# Altium footprint library DragonFly.PcbLib: 28 footprints (part 1 of 2)
Each footprint in its own frame and in the unit in brackets; x right, y up, seen from the top. Pads: shape width x height; smd on the part's side, far side on the other; paste and mask are expansions set on the pad; w line width, h text height; cw(c..) or ccw(c..) is an arc to the next point about the centre after c.
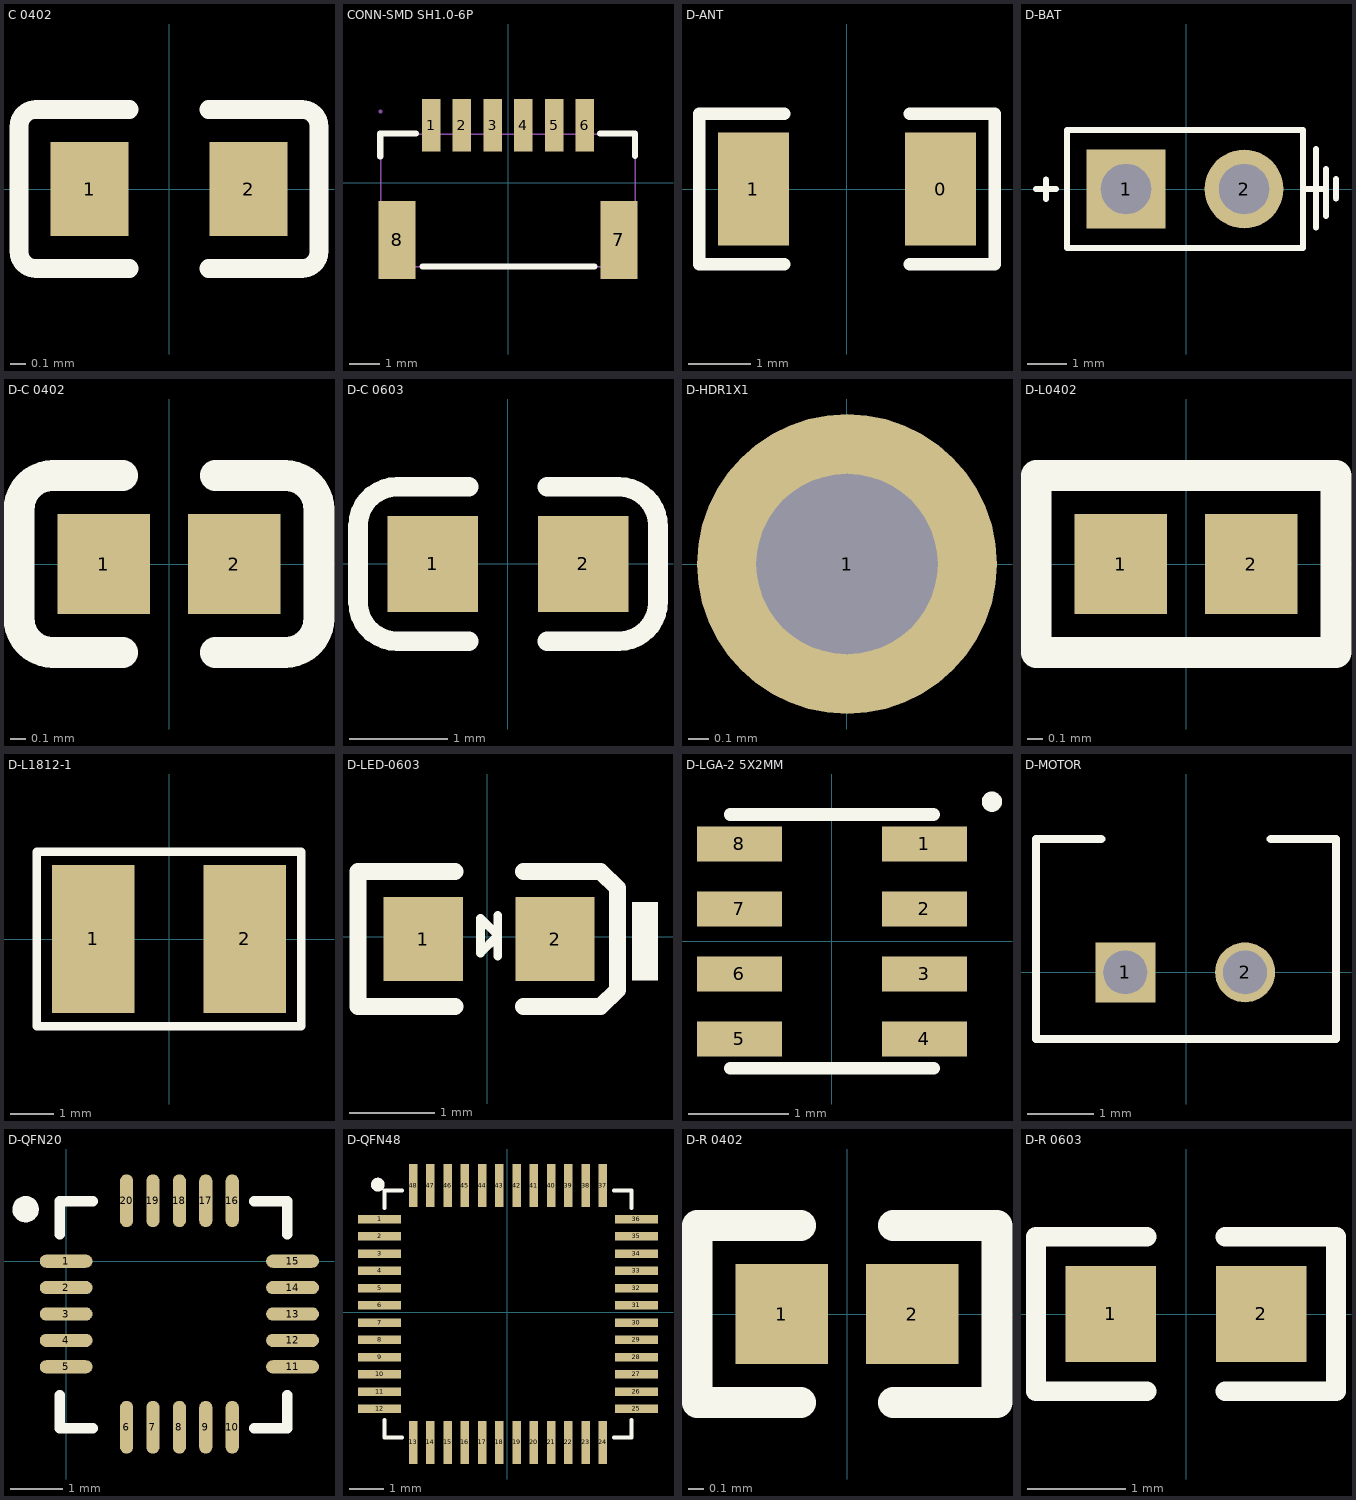
[diagram p0: the footprints below, top view; thin cyan lines are the x and y axes]

## C 0402 [mm]
pads (2):
  rect 0.5x0.6 smd mask+0.102: 1(-0.508,0) 2(0.508,0)
Top Overlay:
  lines w0.12: -0.254,-0.508 -0.85,-0.508 cw(c-0.85,-0.4) -0.958,-0.4 -0.958,0.4 cw(c-0.85,0.4) -0.85,0.508 -0.254,0.508 ; 0.254,-0.508 0.85,-0.508 ccw(c0.85,-0.4) 0.958,-0.4 0.958,0.4 ccw(c0.85,0.4) 0.85,0.508 0.254,0.508

## CONN-SMD SH1.0-6P [mm]
pads (8):
  rect 0.6x1.71 smd mask+0.051: 1(-2.5,1.87) 2(-1.5,1.87) 3(-0.5,1.87) 4(0.5,1.87) 5(1.5,1.87) 6(2.5,1.87)
  rect 1.2x2.55 smd mask+0.051: 7(3.61,-1.87) 8(-3.61,-1.87)
Top Overlay:
  lines w0.2: -4.16,0.852 -4.16,1.592 -3.004,1.592 ; -2.78,-2.73 2.81,-2.73 ; 3.004,1.592 4.14,1.592 4.14,0.872
Mechanical 15:
  region: 2.4,2.315 2.6,2.315 2.6,1.565 2.4,1.565
  region: 1.4,2.315 1.6,2.315 1.6,1.565 1.4,1.565
  region: 0.4,2.315 0.6,2.315 0.6,1.565 0.4,1.565
  region: -0.6,2.315 -0.4,2.315 -0.4,1.565 -0.6,1.565
  region: -1.6,2.315 -1.4,2.315 -1.4,1.565 -1.6,1.565
  region: -2.6,2.315 -2.4,2.315 -2.4,1.565 -2.6,1.565
  region: 3.51,-1.145 3.71,-1.145 3.71,-2.595 3.51,-2.595
  region: -3.71,-1.145 -3.51,-1.145 -3.51,-2.595 -3.71,-2.595
  region: -4.15,2.255 -4.125,2.255 -4.09,2.29 -4.09,2.34 -4.125,2.375 -4.15,2.375 -4.175,2.375 -4.21,2.34 -4.21,2.29 -4.175,2.255 -4.15,2.255
  lines w0.051: -4.15,-2.735 -4.15,1.575 4.15,1.575 4.15,-2.735 -4.15,-2.735

## D-ANT [mm]
pads (2):
  rect 1.13x1.8 smd mask+0.102: 0(1.49,0) 1(-1.49,0)
Top Overlay:
  lines w0.2: -1,-1.2 -2.355,-1.2 -2.355,1.2 -1,1.2 ; 1,-1.2 2.355,-1.2 2.355,1.2 1,1.2

## D-BAT [mm]
pads (2):
  rect 2x2 hole 1.27 slot 1.275 at 0 deg mask+0.102: 1(-1.524,0)
  round 2 hole 1.27 slot 1.275 at 0 deg mask+0.102: 2(1.476,0)
Top Overlay:
  lines w0.152: -3.81,0 -3.302,0 ; -3.556,-0.254 -3.556,0.238 ; 2.976,0 3.476,0 ; 3.302,-0.984 3.302,1.016 ; 3.556,-0.692 3.556,0.508 ; 3.81,-0.246 3.81,0.254 ; -3.024,-1.5 2.976,-1.5 2.976,1.5 -3.024,1.5 -3.024,-1.5

## D-C 0402 [mm]
pads (2):
  rect 0.6x0.65 smd mask+0.102: 1(-0.425,0) 2(0.425,0)
Top Overlay:
  lines w0.2: -0.755,-0.575 cw(c-0.755,-0.355) -0.975,-0.355 -0.975,0.355 cw(c-0.755,0.355) -0.755,0.575 ; -0.75,-0.575 -0.3,-0.575 ; -0.75,0.575 -0.3,0.575 ; 0.3,-0.575 0.75,-0.575 ; 0.3,0.575 0.75,0.575 ; 0.755,-0.575 ccw(c0.755,-0.355) 0.975,-0.355 0.975,0.355 ccw(c0.755,0.355) 0.755,0.575

## D-C 0603 [mm]
pads (2):
  rect 0.93x0.98 smd mask+0.102: 1(-0.77,0) 2(0.77,0)
Top Overlay:
  lines w0.2: -0.4,-0.79 -1.135,-0.79 cw(c-1.135,-0.39) -1.535,-0.39 -1.535,0.39 cw(c-1.135,0.39) -1.135,0.79 -0.4,0.79 ; 0.4,-0.79 1.135,-0.79 ccw(c1.135,-0.39) 1.535,-0.39 1.535,0.39 ccw(c1.135,0.39) 1.135,0.79 0.4,0.79

## D-HDR1X1 [mm]
pads (1):
  round 1.5 hole 0.9 slot 0.905 at 0 deg mask+0.102: 1(0,0)

## D-L0402 [mm]
pads (2):
  rect 0.6x0.65 smd mask+0.102: 1(-0.425,0) 2(0.425,0)
Top Overlay:
  lines w0.2: -0.975,-0.575 -0.975,0.575 0.975,0.575 0.975,-0.575 -0.975,-0.575

## D-L1812-1 [mm]
pads (2):
  rect 1.9x3.42 smd mask+0.102: 1(-1.75,0) 2(1.75,0)
Top Overlay:
  lines w0.2: -3.05,-2.01 -3.05,2.01 3.048,2.01 ; -3.048,-2.01 3.05,-2.01 3.05,2.01

## D-LED-0603 [mm]
pads (2):
  rect 0.93x0.98 smd mask+0.102: 1(-0.745,-0.026) 2(0.795,-0.026)
Top Overlay:
  region: 2,0.406 1.7,0.406 1.7,-0.508 2,-0.508
  lines w0.102: 0.127,-0.229 0.127,0.254 ; -0.076,-0.19 -0.076,0.217 0.122,0.022 0.114,0 -0.076,-0.19
  lines w0.2: -0.375,-0.815 -1.51,-0.815 -1.51,0.765 -0.375,0.765 ; 0.425,-0.815 1.325,-0.815 1.525,-0.622 1.525,0.572 1.325,0.765 0.425,0.765

## D-LGA-2 5X2MM [mm]
pads (8):
  rect 0.85x0.35 smd mask+0.102: 1(0.925,0.975) 2(0.925,0.325) 3(0.925,-0.325) 4(0.925,-0.975) 5(-0.925,-0.975) 6(-0.925,-0.325) 7(-0.925,0.325) 8(-0.925,0.975)
Top Overlay:
  lines w0.102: 1.651,1.392 cw(c1.6,1.397) 1.651,1.397
  lines w0.127: -1.016,-1.27 1.016,-1.27 ; -1.016,1.27 1.016,1.27

## D-MOTOR [mm]
pads (2):
  rect 0.9x0.9 hole 0.65 slot 0.655 at 0 deg mask+0.102: 1(-0.911,0)
  round 0.9 hole 0.65 slot 0.655 at 0 deg mask+0.102: 2(0.886,0)
Top Overlay:
  lines w0.127: -1.27,2 -2.25,2 -2.25,-1 2.25,-1 2.25,2 1.27,2

## D-QFN20 [mm]
pads (20):
  oval 1x0.25 smd mask+0.102: 1(0,0) 2(0,-0.5) 3(0,-1) 4(0,-1.5) 5(0,-2) 11(4.286,-2) 12(4.286,-1.5) 13(4.286,-1) 14(4.286,-0.5) 15(4.286,0)
  oval 0.25x1 smd mask+0.102: 6(1.143,-3.143) 7(1.643,-3.143) 8(2.143,-3.143) 9(2.643,-3.143) 10(3.143,-3.143) 16(3.143,1.143) 17(2.643,1.143) 18(2.143,1.143) 19(1.643,1.143) 20(1.143,1.143)
Top Overlay:
  lines w0.2: -0.118,-2.541 -0.118,-3.166 0.507,-3.166 ; -0.118,0.509 -0.118,1.134 0.507,1.134 ; 3.557,-3.166 4.182,-3.166 4.182,-2.541 ; 3.557,1.134 4.182,1.134 4.182,0.509
  lines w0.25: -0.643,0.978 cw(c-0.768,0.984) -0.643,0.984

## D-QFN48 [mm]
pads (48):
  rect 1.25x0.25 smd mask+0.102: 1(-3.7,2.7) 2(-3.7,2.2) 3(-3.7,1.7) 4(-3.7,1.2) 5(-3.7,0.7) 6(-3.7,0.2) 7(-3.7,-0.3) 8(-3.7,-0.8) 9(-3.7,-1.3) 10(-3.7,-1.8) 11(-3.7,-2.3) 12(-3.7,-2.8) 25(3.75,-2.8) 26(3.75,-2.3) 27(3.75,-1.8) 28(3.75,-1.3) 29(3.75,-0.8) 30(3.75,-0.3) 31(3.75,0.2) 32(3.75,0.7) 33(3.75,1.2) 34(3.75,1.7) 35(3.75,2.2) 36(3.75,2.7)
  rect 0.25x1.25 smd mask+0.102: 13(-2.725,-3.775) 14(-2.225,-3.775) 15(-1.725,-3.775) 16(-1.225,-3.775) 17(-0.725,-3.775) 18(-0.225,-3.775) 19(0.275,-3.775) 20(0.775,-3.775) 21(1.275,-3.775) 22(1.775,-3.775) 23(2.275,-3.775) 24(2.775,-3.775) 37(2.775,3.675) 38(2.275,3.675) 39(1.775,3.675) 40(1.275,3.675) 41(0.775,3.675) 42(0.275,3.675) 43(-0.225,3.675) 44(-0.725,3.675) 45(-1.225,3.675) 46(-1.725,3.675) 47(-2.225,3.675) 48(-2.725,3.675)
Top Overlay:
  lines w0.127: -3.556,-3.123 -3.556,-3.631 -3.048,-3.631 ; -3.556,3.023 -3.556,3.531 -3.048,3.531 ; 3.098,-3.631 3.606,-3.631 3.606,-3.123 ; 3.098,3.531 3.606,3.531 3.606,3.023
  lines w0.2: -3.65,3.698 cw(c-3.75,3.701) -3.65,3.7

## D-R 0402 [mm]
pads (2):
  rect 0.6x0.65 smd mask+0.102: 1(-0.425,0) 2(0.425,0)
Top Overlay:
  lines w0.2: -0.3,-0.575 -0.975,-0.575 -0.975,0.575 -0.3,0.575 ; 0.3,-0.575 0.975,-0.575 0.975,0.575 0.3,0.575

## D-R 0603 [mm]
pads (2):
  rect 0.93x0.98 smd mask+0.102: 1(-0.77,0) 2(0.77,0)
Top Overlay:
  lines w0.2: -0.4,-0.79 -1.535,-0.79 -1.535,0.79 -0.4,0.79 ; 0.4,-0.79 1.535,-0.79 1.535,0.79 0.4,0.79